# EAGLE library part ADS8344 (library paparazzi)
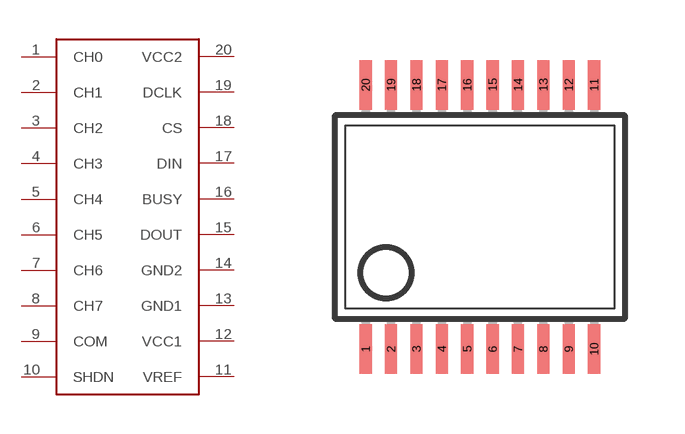
[diagram p42: symbol with the pads of SSOP20; footprint SSOP20]

Designator prefix -

## ADS8344  [SSOP20]
1  CH0
2  CH1
3  CH2
4  CH3
5  CH4
6  CH5
7  CH6
8  CH7
9  COM
10  SHDN
11  VREF
12  VCC1
13  GND1
14  GND2
15  DOUT
16  BUSY
17  DIN
18  CS
19  DCLK
20  VCC2

## Footprint SSOP20 (pad centres in mm)
Small Shrink Outline Package
smd 0.305 x 1.245: 1 -2.857,-3.302; 2 -2.222,-3.302; 3 -1.587,-3.302; 4 -0.952,-3.302; 5 -0.317,-3.302; 6 0.318,-3.302; 7 0.953,-3.302; 8 1.588,-3.302; 9 2.223,-3.302; 10 2.858,-3.302; 11 2.858,3.302; 12 2.223,3.302; 13 1.588,3.302; 14 0.953,3.302; 15 0.318,3.302; 16 -0.317,3.302; 17 -0.952,3.302; 18 -1.587,3.302; 19 -2.222,3.302; 20 -2.857,3.302